# Altium footprint library Arduino.PcbLib: 26 footprints (part 1 of 2)
Each footprint in its own frame and in the unit in brackets; x right, y up, seen from the top. Pads: shape width x height; smd on the part's side, far side on the other; paste and mask are expansions set on the pad; w line width, h text height; cw(c..) or ccw(c..) is an arc to the next point about the centre after c.
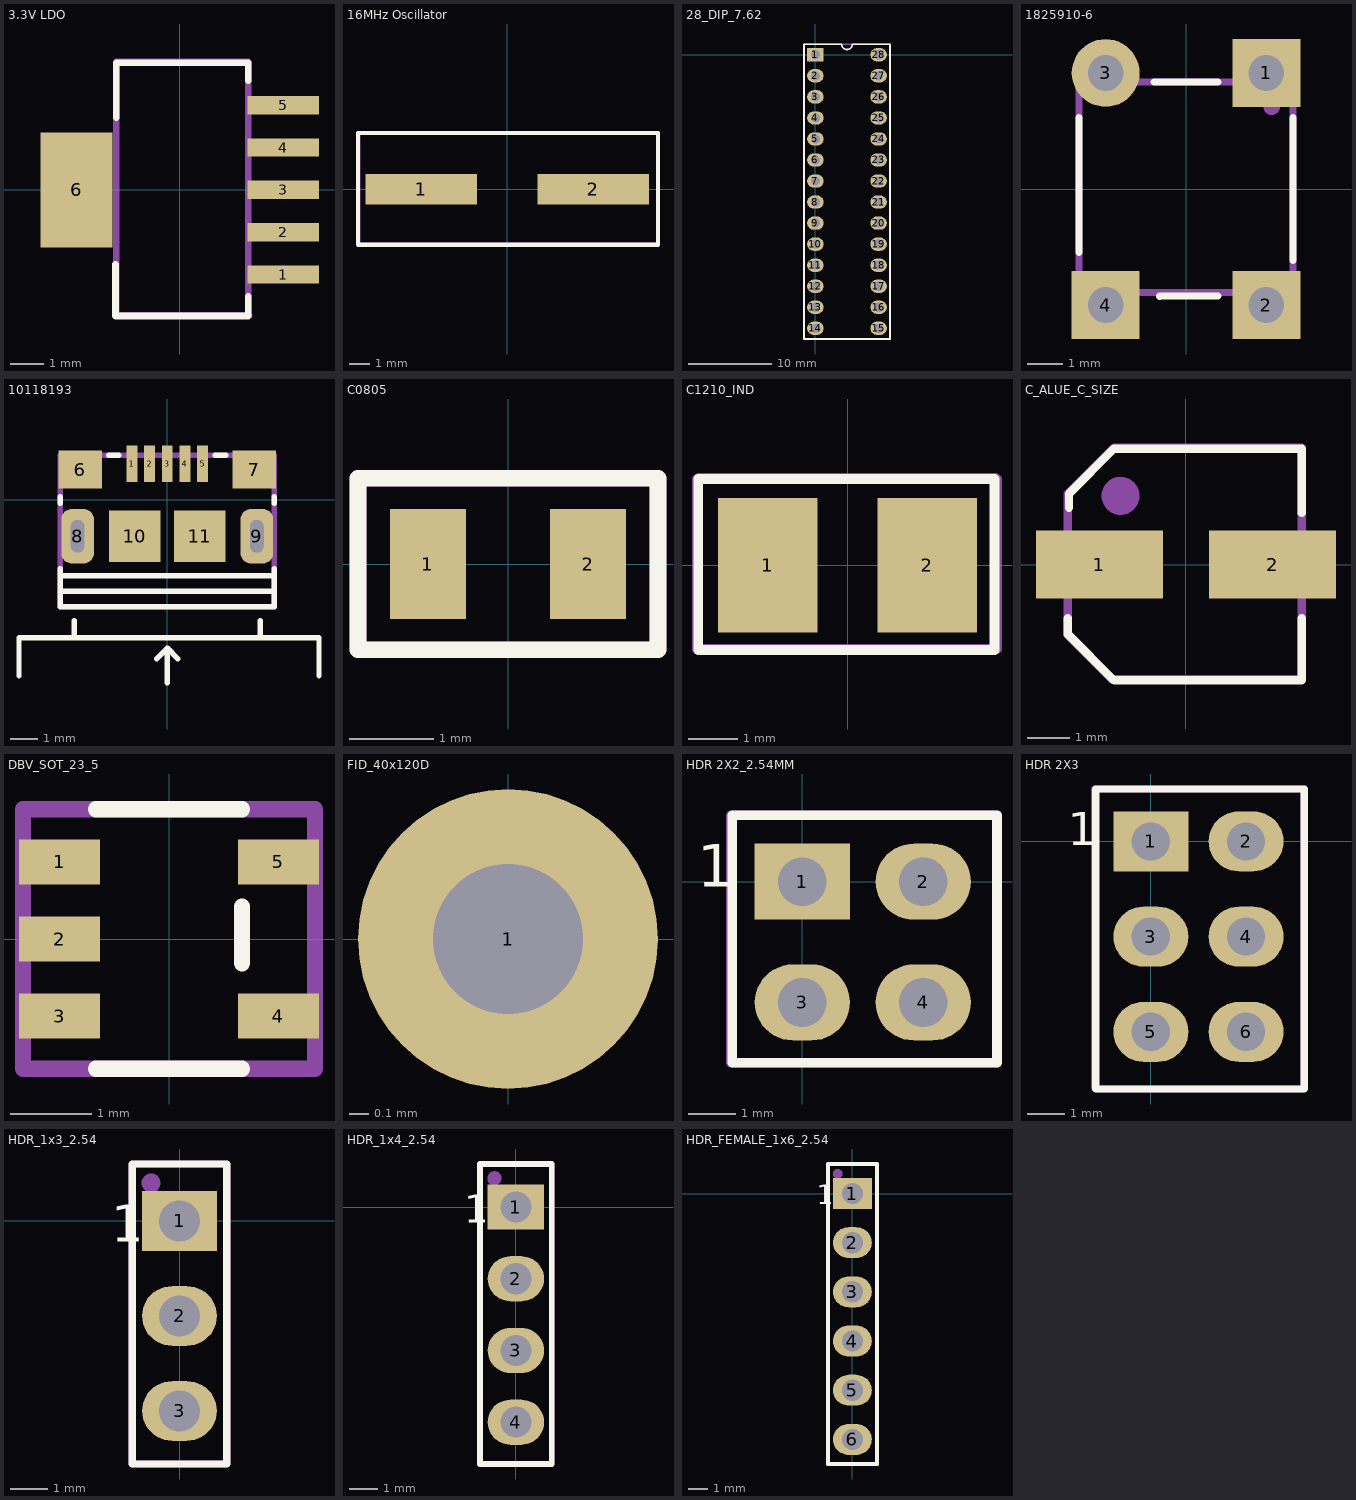
[diagram p0: the footprints below, top view; thin cyan lines are the x and y axes]

## 3.3V LDO [mm]
pads (6):
  rect 2.15x0.55 smd: 1(3.1,-2.54) 2(3.1,-1.27) 3(3.1,0) 4(3.1,1.27) 5(3.1,2.54)
  rect 2.15x3.45 smd: 6(-3.1,0)
Top Overlay:
  lines w0.2: -1.93,-2.235 -1.93,-3.785 2.057,-3.785 2.057,-3.2 ; -1.905,2.159 -1.905,3.81 2.057,3.81 2.057,3.277
Mechanical 29:
  lines w0.2: -1.905,-3.759 -1.905,3.835 2.057,3.835 2.057,-3.734 2.083,-3.759 -1.905,-3.759
  text ".designator" at 0.462,-2.211 h0.6
3D body "LDO.stp": height 1.66, standoff 0, extent -3.554,-3.25 3.554,3.25

## 16MHz Oscillator [mm]
pads (2):
  rect 5.5x1.5 smd: 1(-4.25,0) 2(4.25,0)
Top Overlay:
  lines w0.2: -7.366,-2.743 -7.366,2.769 7.442,2.769 7.442,-2.743 -7.366,-2.743
Mechanical 29:
  lines w0.2: -7.341,-2.692 -7.341,2.769 7.442,2.769 7.442,-2.718 7.417,-2.743 -7.29,-2.743 -7.341,-2.692
  text ".desginator" at -5.896,-0.34 h1.2
3D body "User Library-Crystal HC49_US-SM.step": height 4.3, standoff 0, extent -6.4,-2.415 6.4,2.415

## 28-DIP_7.62mm_SOCKET [mm]
3D body "dil_socket.stp": height 2.8, standoff -4.57, extent -1.24,-34.006 8.86,1.494

## 28_DIP_7.62 [mm]
pads (28):
  rect 2x1.6 hole 1.1: 1(0,0)
  oval 2x1.6 hole 1.1: 2(0,-2.54) 3(0,-5.08) 4(0,-7.62) 5(0,-10.16) 6(0,-12.7) 7(0,-15.24) 8(0,-17.78) 9(0,-20.32) 10(0,-22.86) 11(0,-25.4) 12(0,-27.94) 13(0,-30.48) 14(0,-33.02) 15(7.62,-33.02) 16(7.62,-30.48) 17(7.62,-27.94) 18(7.62,-25.4) 19(7.62,-22.86) 20(7.62,-20.32) 21(7.62,-17.78) 22(7.62,-15.24) 23(7.62,-12.7) 24(7.62,-10.16) 25(7.62,-7.62) 26(7.62,-5.08) 27(7.62,-2.54) 28(7.62,0)
Top Overlay:
  lines w0.2: -1.39,-34.31 9.01,-34.31 9.01,1.27 4.445,1.27 cw(c3.81,1.27) 3.175,1.27 -1.39,1.27 -1.39,-34.31
Mechanical 29:
  circle w0.5: c0.01,-0.01 r0.4
  lines w0.2: -1.39,-34.31 9.01,-34.31 9.01,1.29 -1.39,1.29 -1.39,-34.31
  text ".Designator" at 4.81,-31.61 h3
3D body "User Library-28 pin dip-1.step": height 4.85, standoff -1.37, extent -0.127,-34.451 7.747,1.49

## 1825910-6 [mm]
pads (4):
  rect 1.9x1.9 hole 1: 1(2.25,3.25) 2(2.25,-3.25) 4(-2.25,-3.25)
  round 1.9 hole 1: 3(-2.25,3.25)
Top Overlay:
  lines w0.2: -3,-1.77 -3,2 ; -0.9,3 0.9,3 ; -0.734,-3.003 0.9,-3 ; 3,-2 3,2
Mechanical 29:
  circle w0.254: c2.4,2.3 r0.1
  lines w0.2: -3,-2.9 -3,-2.8 -3,3 3,3 3,-2.9 -3,-2.9
  text ".designator" at -0.1,0.6 h1.2
3D body "User Library-FSM4JLH(1825910-5).step": height 5, standoff -3.51, extent -2.995,-3.799 2.995,4

## 10118193 [mm]
pads (11):
  rect 0.4x1.35 smd paste+0 mask+0.05: 1(-1.3,1.338) 2(-0.65,1.338) 3(0,1.338) 4(0.65,1.338) 5(1.3,1.338)
  rect 1.6x1.4 smd paste+0: 6(-3.2,1.112) 7(3.2,1.112)
  rrect60% 1.2x2 hole 0.5 slot 1.2 at 90 deg paste+0: 8(-3.3,-1.338) 9(3.3,-1.338)
  rect 1.9x1.9 smd paste+0: 10(-1.2,-1.338) 11(1.2,-1.338)
Top Overlay:
  lines w0.2: -5.461,-6.477 -5.461,-5.08 5.588,-5.08 5.588,-6.477 ; -3.937,-3.365 3.937,-3.365 ; -3.937,-2.794 3.81,-2.794 ; -3.937,-2.54 -3.937,-3.937 3.937,-3.937 3.937,-2.54 ; -3.937,-0.127 -3.937,0.127 ; -3.429,-4.953 -3.429,-4.445 ; -2.159,1.651 -1.778,1.651 ; -0.381,-5.842 0,-5.461 ; 0,-6.731 0,-5.461 ; 0.381,-5.842 0,-5.461 ; 1.759,1.651 2.159,1.651 ; 3.429,-5.08 3.429,-4.445 ; 3.937,-0.127 3.937,0.127
Mechanical 29:
  lines w0.2: -3.937,-3.937 3.937,-3.937 3.937,1.651 -2.159,1.651 -3.937,1.651 -3.937,-3.937
  text ".desginator" at -1.678,-0.843 h0.6
3D body "10118193-0001lfc.stp": height 2.81, standoff -0.79, extent -3.928,-3.937 3.928,1.724

## C0805 [mm]
pads (2):
  rect 0.9x1.3 smd: 1(-0.95,0) 2(0.95,0)
Top Overlay:
  lines w0.2: -1.778,-1.016 -1.778,1.016 1.778,1.016 1.778,-1.016 -1.778,-1.016
Mechanical 29:
  lines w0.2: -1.778,-1.016 -1.778,1.016 1.778,1.016 1.778,-1.016 -1.778,-1.016
  text ".designator" at -1.17,-0.208 h0.6
3D body "CAPC2012X145N EIA 0805.step": height 1.46, standoff 0.01, extent -1.016,-0.6 0.984,0.6

## C1210_IND [mm]
pads (2):
  rect 2x2.7 smd: 1(-1.6,0) 2(1.6,0)
Top Overlay:
  lines w0.2: -2.997,-1.702 -2.997,1.727 2.946,1.727 2.946,-1.702 -2.997,-1.702
Mechanical 29:
  lines w0.2: -3.023,1.727 -3.023,-1.676 2.997,-1.676 2.997,1.727 2.972,1.753 -2.997,1.753
  text ".designator" at -1.246,-0.056 h0.6
3D body: height 2.7, standoff -0.01, extent -1.321,-1.245 1.295,1.245
3D body: height 2.7, standoff -0.01, extent 1.295,-1.245 1.626,1.245
3D body: height 2.7, standoff -0.01, extent -1.651,-1.245 -1.321,1.245

## C_ALUE_C_SIZE [mm]
pads (2):
  rect 3x1.6 smd: 1(-2.05,0) 2(2.05,0)
Top Overlay:
  lines w0.2: -2.794,-1.27 -2.794,-1.651 -1.702,-2.743 -1.143,-2.743 2.743,-2.743 2.743,-1.27 ; -2.769,1.346 -2.769,1.676 -1.702,2.743 2.743,2.743 2.743,1.219
Mechanical 29:
  circle w0.5: c-1.549,1.626 r0.2
  lines w0.2: -2.794,-1.676 -1.753,-2.718 2.718,-2.718 2.743,-2.692 2.743,2.769 -1.676,2.769 -1.702,2.769 -2.794,1.676 -2.794,-1.575 -2.794,-1.676
  text ".designator" at -0.714,-0.238 h1.2
3D body "User Library-capacitor size C.step": height 5.41, standoff -0.01, extent -2.899,-2.625 3.001,2.675

## DBV_SOT_23_5 [mm]
pads (5):
  rect 1x0.55 smd: 1(-1.35,0.95) 2(-1.35,0) 3(-1.35,-0.95) 4(1.35,-0.95) 5(1.35,0.95)
Top Overlay:
  lines w0.2: -0.9,-1.6 0.9,-1.6 ; -0.9,1.6 0.9,1.6 ; 0.9,-0.3 0.9,0.4
Mechanical 29:
  lines w0.2: -1.8,-1.6 1.8,-1.6 1.8,1.6 -1.8,1.6 -1.8,-1.6
  text ".designator" at -0.1,0 h0.6
3D body "User Library-TPS79333DBVR.step": height 1.61, standoff -0.01, extent -1.614,-1.525 1.414,1.525

## FID_40x120D [mil]
pads (1):
  round 60 / inner round 0 / far side round 0 hole 30 unplated paste-1574.8 mask+15.75: 1(0,0)

## HDR 2X2_2.54MM [mm]
pads (4):
  rect 2x1.6 hole 1.02: 1(0,0)
  oval 2x1.6 hole 1.02: 2(2.54,0) 3(0,-2.54) 4(2.54,-2.54)
Top Overlay:
  lines w0.2: -1.473,-3.81 4.089,-3.81 4.089,1.397 -1.473,1.397 -1.473,-3.81
  text "1" at -2.213,-0.105 h0.89
Mechanical 29:
  lines w0.2: -1.499,-3.81 4.089,-3.81 4.089,1.397 -1.499,1.397 -1.499,-3.785
  text ".designator" at 1.686,-2.061 h1.2
3D body "Pin Header 2x2 TH Pitch 2.54mm.stp": height 9.5, standoff -3.2, extent -1.27,-3.81 3.81,1.27

## HDR 2X3 [mm]
pads (6):
  rect 2x1.6 hole 1.02: 1(0,0)
  oval 2x1.6 hole 1.02: 2(2.54,0) 3(0,-2.54) 4(2.54,-2.54) 5(0,-5.08) 6(2.54,-5.08)
Top Overlay:
  lines w0.2: -1.473,-6.604 -1.473,1.397 4.089,1.397 4.089,-6.604 -1.473,-6.604
  text "1" at -2.213,-0.105 h0.89
Mechanical 29:
  lines w0.2: -1.499,-6.553 -1.499,1.397 4.089,1.397 4.089,-6.553 4.039,-6.604 -1.448,-6.604 -1.499,-6.553
  text ".designator" at 1.356,-2.721 h1.2
3D body "User Library-HEADER, 2X3, 2_54MM X 2_54MM PITCH, VERT, TH.step": height 8.39, standoff -3.8, extent -1.245,-6.401 3.835,1.219

## HDR_1x3_2.54 [mm]
pads (3):
  rect 2x1.6 hole 1.1: 1(0,0)
  oval 2x1.6 hole 1.1: 2(0,-2.54) 3(0,-5.08)
Top Overlay:
  lines w0.2: -1.27,-6.5 1.27,-6.5 1.27,1.524 -1.27,1.524 -1.27,-6.5
  text "1" at -1.832,-0.562 h1
Mechanical 29:
  circle w0.254: c-0.762,1.016 r0.127
  lines w0.2: -1.27,-6.5 1.27,-6.5 1.27,1.524 -1.27,1.524 -1.27,-6.5
  text ".Designator" at 0.5,-6.1 h1.2
3D body "HDR_1x3_White.stp": height 8.19, standoff -3.31, extent -1.2,-6.02 1.21,1.2

## HDR_1x4_2.54 [mm]
pads (4):
  rect 2x1.6 hole 1.1: 1(0,0)
  oval 2x1.6 hole 1.1: 2(0,-2.54) 3(0,-5.08) 4(0,-7.62)
Top Overlay:
  lines w0.2: -1.27,-9.1 -1.27,1.524 1.27,1.524 1.27,-9.1 -1.27,-9.1
  text "1" at -1.832,-0.562 h1
Mechanical 29:
  circle w0.254: c-0.762,1.016 r0.127
  lines w0.2: -1.27,-9.1 -1.27,1.524 1.27,1.524 1.27,-9.1 -1.27,-9.1
  text ".Designator" at 0.5,-7.5 h1.2
3D body "HDR_1x4_White.stp": height 8.39, standoff -3.11, extent -1.21,-8.7 1.2,1.06

## HDR_FEMALE_1x6_2.54 [mm]
pads (6):
  rect 2x1.6 hole 1.1: 1(0,0)
  oval 2x1.6 hole 1.1: 2(0,-2.54) 3(0,-5.08) 4(0,-7.62) 5(0,-10.16) 6(0,-12.7)
Top Overlay:
  lines w0.2: 0.635,-13.97 -1.27,-13.97 ; -1.27,-13.97 -1.27,1.524 1.27,1.524 1.27,-13.97 ; -1.27,-13.97 1.27,-13.97 ; -1.27,-13.97 1.27,-13.97
  text "1" at -1.832,-0.562 h1
Mechanical 29:
  circle w0.254: c-0.762,1.016 r0.127
  lines w0.2: -1.27,-13.97 -1.27,1.524 1.27,1.524 1.27,-13.97 -1.27,-13.97
  text ".Designator" at 0.416,-11.738 h1.2
3D body "m20-7820646_asm.stp": height 8.51, standoff -2.99, extent -1.27,-14.043 1.23,1.597